# Altium footprint library HEXCAL_PCB_LIB.PcbLib: 209 footprints (part 14 of 14)
Each footprint in its own frame and in the unit in brackets; x right, y up, seen from the top. Pads: shape width x height; smd on the part's side, far side on the other; paste and mask are expansions set on the pad; w line width, h text height; cw(c..) or ccw(c..) is an arc to the next point about the centre after c.
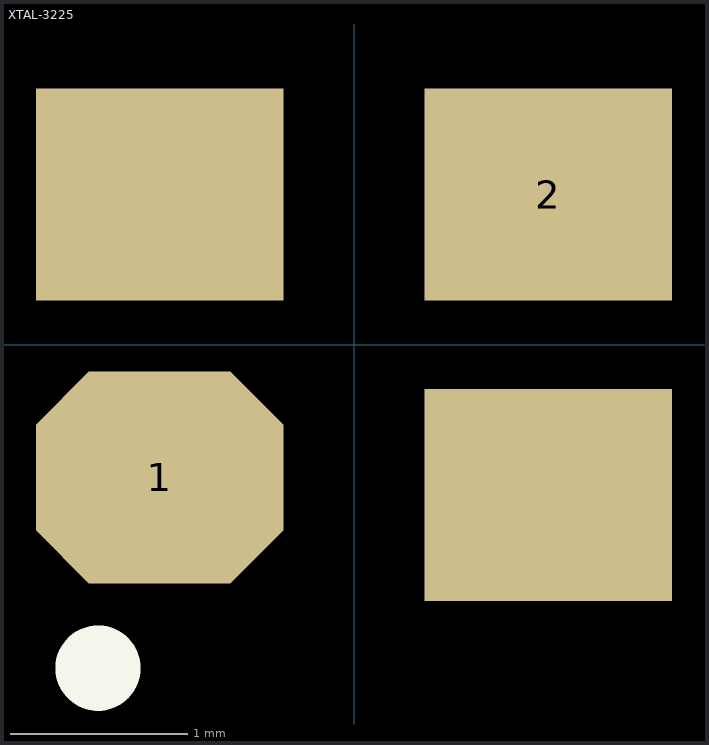
[diagram p13: the footprint, top view; thin cyan lines are the x and y axes]

## XTAL-3225 [mm]
pads (4):
  oct 1.4x1.2 smd: 1(-1.1,-0.75)
  rect 1.4x1.2 smd: 2(1.1,0.85) ""(-1.1,0.85) ""(1.1,-0.85)
Top Overlay:
  circle w0.381: c-1.448,-1.829 r0.051
3D body: height 0.81, standoff 0, extent -1.607,-1.25 1.607,1.25